# Altium schematic symbol library SensingBox.SCHLIB: 45 symbols
Pins are listed as number, name and electrical type; pins without a type are passive.

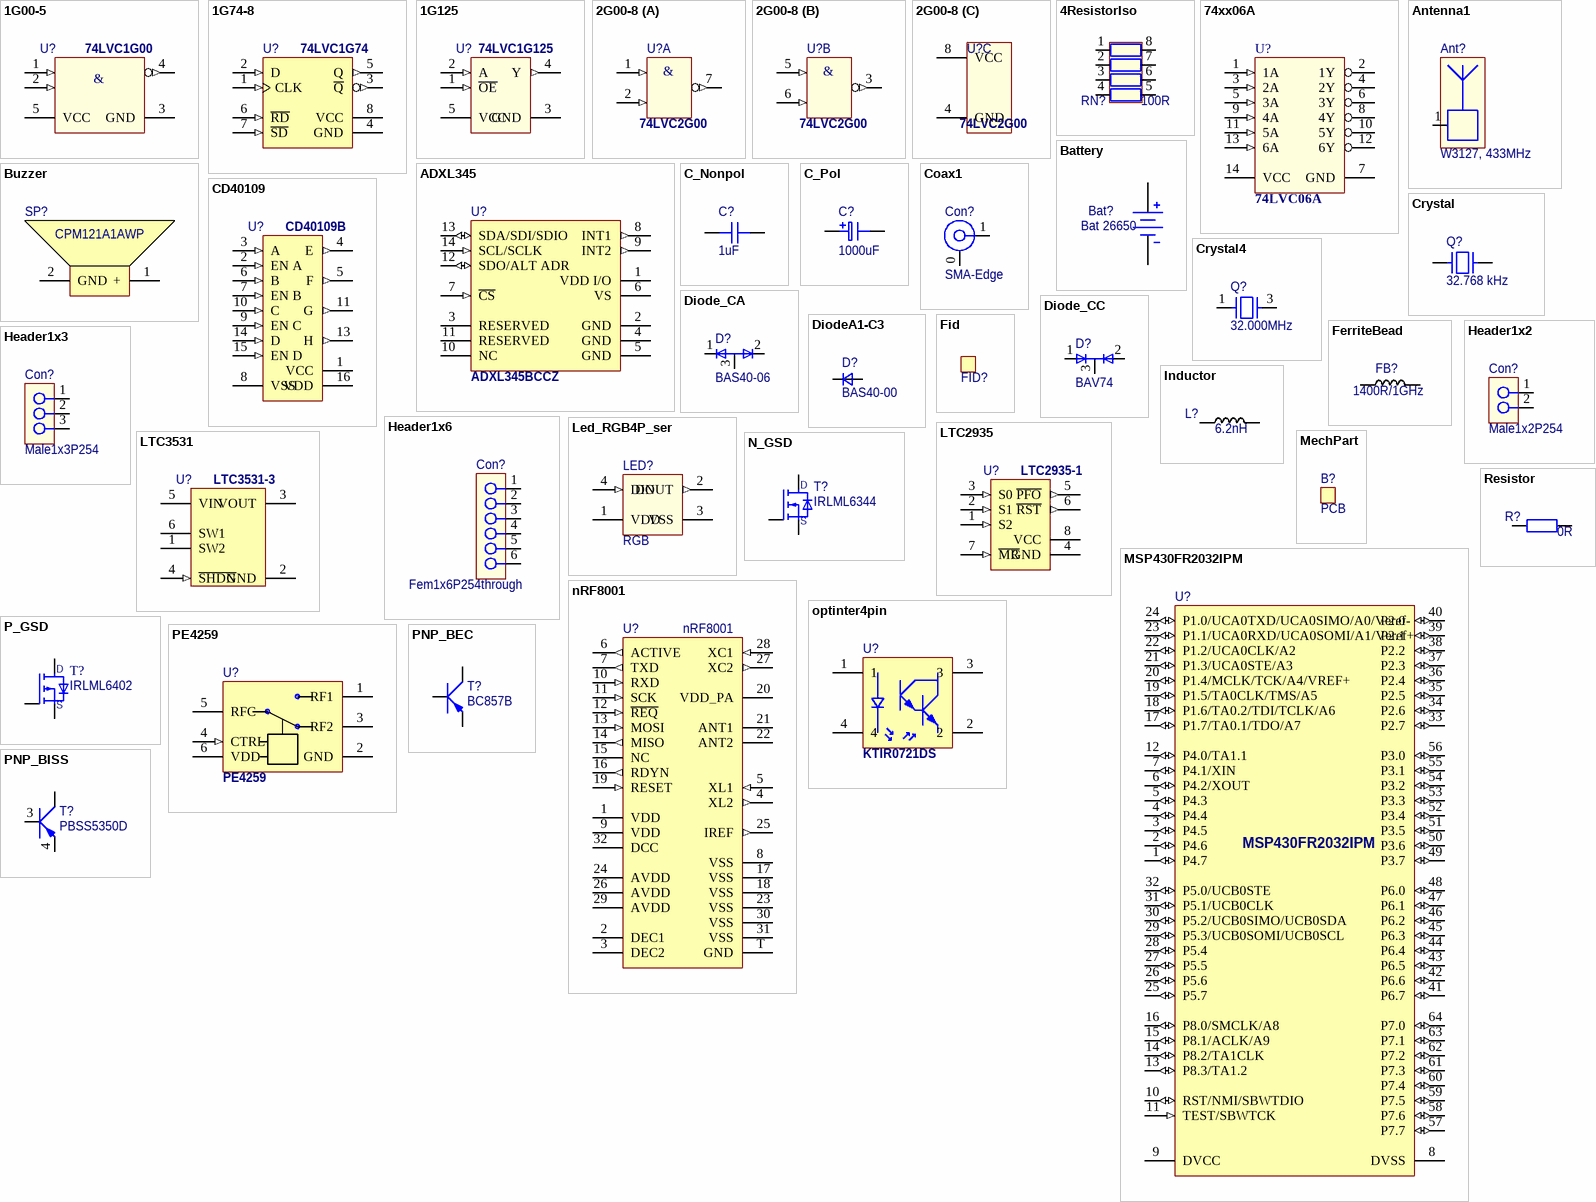
[diagram p0: symbols 1G00-5 to Resistor]

## 1G00-5
designator U?, comment 74LVC1G00
CMOS Single 2-input NAND TSSOP5; Part Number: 1-00000265; ID: 1; Value: 74LVC1G00; Family: LVC; Function: Single 2-input NAND; Lifecycle: active; HelpURL: \\Wsnserver1\wsn\Documents\Engineering\Partnumbers\AVL\1-00000265; Datasheet: NXP#\\Wsnserver1\wsn\Documents\Engineering\Partnumbers\AVL\1-00000265#; Component Type: Standard
footprint sot353
pins: 1 (in), 2 (in), 3 GND (power), 4 (out), 5 VCC (power)
text: &

## 1G74-8
designator U?, comment 74LVC1G74
Single D-Flip-Flop with Set and Reset VSSOP8; Part Number: 1-00000271; ID: 2; Value: 74LVC1G74; Family: LVC; Function: Single D-Flip-Flop; Lifecycle: active; HelpURL: \\Wsnserver1\wsn\Documents\Engineering\Partnumbers\AVL\1-00000271; Datasheet: NXP#\\Wsnserver1\wsn\Documents\Engineering\Partnumbers\AVL\1-00000271#; Component Type: Standard
footprint SO8P05_200x230x10
pins: 1 CLK (in), 2 D (in), 3 ~{Q} (out), 4 GND (power), 5 Q (out), 6 ~{RD} (in), 7 ~{SD} (in), 8 VCC (power)

## 1G125
designator U?, comment 74LVC1G125
CMOS Single Bus Driver 3-state TSSOP; Part Number: 1-00000314; ID: 6; Function: Single Bus Driver, 3-state; Value: 74LVC1G125; Family: LVC; Lifecycle: active; HelpURL: \\Wsnserver1\wsn\Documents\Engineering\Partnumbers\AVL\1-00000314; Datasheet: NXP#\\Wsnserver1\wsn\Documents\Engineering\Partnumbers\AVL\1-00000314#; Component Type: Standard
footprint sot353
pins: 1 ~{OE} (in), 2 A (in), 3 GND (power), 4 Y (out), 5 VCC (power)

## 2G00-8
designator U?, comment 74LVC2G00
CMOS Dual 2-input NAND VSSOP8; Part Number: 1-00000293; ID: 3; Value: 74LVC2G00; Family: LVC; Function: Dual 2-input NAND; Lifecycle: active; HelpURL: \\Wsnserver1\wsn\Documents\Engineering\Partnumbers\AVL\1-00000293; Datasheet: NXP#\\Wsnserver1\wsn\Documents\Engineering\Partnumbers\AVL\1-00000293#; Component Type: Standard
footprint SO8P05_200x230x10
part A pins: 1 (in), 2 (in), 7 (out)
part B pins: 3 (out), 5 (in), 6 (in)
part C pins: 4 GND (power), 8 VCC (power)
part A text: &
part B text: &

## 4ResistorIso
designator RN?, comment 100R
Res Net 4Iso 100R 5% smd0804; Part Number: 1-00000242; ID: 62; Count: 4; Power: 62.5mW; Value: 100R; Tolerance: 5%; Lifecycle: active; HelpURL: \\Wsnserver1\wsn\Documents\Engineering\Partnumbers\AVL\BournsResistorArrays\Bourns_CAT10.pdf; Datasheet: Bourns#\\Wsnserver1\wsn\Documents\Engineering\Partnumbers\AVL\BournsResistorArrays\Bourns_CAT10.pdf#; Component Type: Standard
footprint smd8_4x1
pins: 1, 2, 3, 4, 5, 6, 7, 8

## 74xx06A
designator U?, comment 74LVC06A
CMOS Hex Inverter with OD Output TSSOP; Part Number: 1-00000328; ID: 7; Function: Hex Inverter OD; Value: 74LVC06A; Family: LVC; Lifecycle: active; Component Type: Standard; HelpURL: \\Wsnserver1\wsn\Documents\Engineering\Partnumbers\AVL\1-00000328; Datasheet: ON Semi#\\Wsnserver1\wsn\Documents\Engineering\Partnumbers\AVL\1-00000328#
footprint SO14P065_440x500x12
pins: 1 1A (in), 2 1Y (oc), 3 2A (in), 4 2Y (oc), 5 3A (in), 6 3Y (oc), 7 GND (power), 8 4Y (oc), 9 4A (in), 10 5Y (oc), 11 5A (in), 12 6Y (oc), 13 6A (in), 14 VCC (power)

## ADXL345
designator U?, comment ADXL345BCCZ
Sensor 3-axis Accelerometer LGA14; Part Number: 1-00000232; ID: 145; Application: Accelerometer; Value: ADXL345BCCZ; Lifecycle: active; HelpURL: \\Wsnserver1\wsn\Documents\Engineering\Partnumbers\AVL\1-00000232\1-00000232_ADXL345.pdf; Datasheet: AnalogDevices#\\Wsnserver1\wsn\Documents\Engineering\Partnumbers\AVL\1-00000232\1-00000232_ADXL345.pdf#; Component Type: Standard
footprint LGA14P08_300x500x1
pins: 1 VDD I/O (power), 2 GND (power), 3 RESERVED, 4 GND (power), 5 GND (power), 6 VS (power), 7 ~{CS} (in), 8 INT1 (out), 9 INT2 (out), 10 NC, 11 RESERVED, 12 SDO/ALT ADR (io), 13 SDA/SDI/SDIO (io), 14 SCL/SCLK (in)

## Antenna1
designator Ant?, comment W3127, 433MHz
Antenna Helical W3127 433MHz D7x35.35; Part Number: 1-00000313; ID: 3; Type: Antenna; Value: W3127, 433MHz; Lifecycle: active; HelpURL: \\Wsnserver1\wsn\Documents\Engineering\Partnumbers\AVL\1-00000313\1-00000313_W3127.pdf; Datasheet: Pulse#\\Wsnserver1\wsn\Documents\Engineering\Partnumbers\AVL\1-00000313\1-00000313_W3127.pdf#; Component Type: Standard
footprint Antenna_Helical3535x73
pins: 1

## Battery
designator Bat?, comment Bat 26650
Bat 3.6V  Size 26650; Part Number: 26650; ID: 5; Type: Battery; Value: Bat 26650; Lifecycle: active; Component Type: Standard
footprint Bat26650
pins: 1 (power), 2 (power)

## Buzzer
designator SP?, comment CPM121A1AWP
Buzzer 12V/80dB 2pin D138x75TH; Part Number: 1-00000260; ID: 1; Type: Buzzer; Value: CPM121A1AWP; Lifecycle: active; HelpURL: \\Wsnserver1\wsn\Documents\Engineering\Partnumbers\AVL\1-00000260; Datasheet: NihonCeratec#\\Wsnserver1\wsn\Documents\Engineering\Partnumbers\AVL\1-00000260#; Component Type: Standard
footprint D138x75TH
pins: 1 + (power), 2 GND (power)

## C_Nonpol
designator C?, comment 1uF
Cap X7R 1uF 16V 10% smd0603; Part Number: 1-00000219; ID: 350; Type: Ceramic; Value: 1uF; Material: X7R; Tolerance: 10%; Voltage: 16V; Lifecycle: active; HelpURL: \\Wsnserver1\wsn\Documents\Engineering\Partnumbers\AVL\KemetCapaciter\KEM_CC101_COMM_SMD.pdf; Datasheet: Kemet#\\Wsnserver1\wsn\Documents\Engineering\Partnumbers\AVL\KemetCapaciter\KEM_CC101_COMM_SMD.pdf; Component Type: Standard
footprint smd0603
pins: 1, 2

## C_Pol
designator C?, comment 1000uF
Cap Alu 1000uF 6.3V 20% size F; Part Number: 1-00000297; ID: 355; Value: 1000uF; Type: Alu; Material: Alu; Tolerance: 20%; Voltage: 6.3V; Lifecycle: active; HelpURL: \\Wsnserver1\wsn\Documents\Engineering\Partnumbers\AVL\1-00000297; Datasheet: Panasonic#\\Wsnserver1\wsn\Documents\Engineering\Partnumbers\AVL\1-00000297#; Component Type: Standard
footprint elko_d8x105
pins: 1, 2

## CD40109
designator U?, comment CD40109B
CMOS Quad Low-to-High Level Shifter TSSOP; Part Number: 1-00000319; ID: 4; Function: Quad Level Shifter; Value: CD40109B; Family: HC; Lifecycle: active; HelpURL: \\Wsnserver1\wsn\Documents\Engineering\Partnumbers\AVL\1-00000319\1-00000319_cd40109b.pdf; Datasheet: TI#\\Wsnserver1\wsn\Documents\Engineering\Partnumbers\AVL\1-00000319\1-00000319_cd40109b.pdf#; Component Type: Standard
footprint SO16P065_440x500x12
pins: 1 VCC (power), 2 EN A (in), 3 A (in), 4 E (out), 5 F (out), 6 B (in), 7 EN B (in), 8 VSS (power), 9 EN C (in), 10 C (in), 11 G (out), 13 H (out), 14 D (in), 15 EN D (in), 16 VDD (power)

## Coax1
designator Con?, comment SMA-Edge
SMA Jack Edge Mount L9.53 5Pad; Part Number: 1-00000312; ID: 23; Angle: 0; Impedance: 50R; Application: RF; Value: SMA-Edge; Pins: 1; Type: Coax; Lifecycle: active; HelpURL: \\Wsnserver1\wsn\Documents\Engineering\Partnumbers\AVL\1-00000312\1-00000312_732511150_sd.pdf; Datasheet: Molex#\\Wsnserver1\wsn\Documents\Engineering\Partnumbers\AVL\1-00000312\1-00000312_732511150_sd.pdf#; Component Type: Standard
footprint sma_edge5p953x953h434
pins: 0 (power), 1

## Crystal
designator Q?, comment 32.768 kHz
Crys 32.768kHz +/-20ppm smd20x12; Part Number: 1-00000301; ID: 72; CL: 12.5 pF; Value: 32.768 kHz; Tolerance: +/-20ppm; Lifecycle: active; HelpURL: \\Wsnserver1\wsn\Documents\Engineering\Partnumbers\AVL\1-00000301\1-00000301_NX2012SA-STD-MUB-1_e.pdf; Datasheet: NDK#\\Wsnserver1\wsn\Documents\Engineering\Partnumbers\AVL\1-00000301\1-00000301_NX2012SA-STD-MUB-1_e.pdf#; Component Type: Standard
footprint Crystal_smd20x12
pins: 1, 2

## Crystal4
designator Q?, comment 32.000MHz
Crys 32.000MHz +/-15ppm smd3225; Part Number: 1-00000302; ID: 73; CL: 8pF; Value: 32.000MHz; Tolerance: +/-15ppm; Lifecycle: active; HelpURL: \\Wsnserver1\wsn\Documents\Engineering\Partnumbers\AVL\1-00000302\1-00000302_NX3225SA.pdf; Datasheet: NDK#\\Wsnserver1\wsn\Documents\Engineering\Partnumbers\AVL\1-00000302\1-00000302_NX3225SA.pdf#; Component Type: Standard
footprint Crystal_smd3225
pins: 1, 2 (power) hidden to GND, 3, 4 (power) hidden to GND

## Diode_CA
designator D?, comment BAS40-06
DIODE Schottky Dual CA 40V 200mA SOT23; Part Number: 1-00000270; ID: 5; Count: 2; Common: Anode; Application: General; Value: BAS40-06; Voltage: 40V; Current: 200mA; Lifecycle: active; HelpURL: \\Wsnserver1\wsn\Documents\Engineering\Partnumbers\AVL\1-00000270; Datasheet: Vishay#\\Wsnserver1\wsn\Documents\Engineering\Partnumbers\AVL\1-00000270#; Component Type: Standard
footprint sot23
pins: 1, 2, 3

## Diode_CC
designator D?, comment BAV74
DIODE High Speed Dual CC 60V 215mA SOT23; Part Number: 1-00000292; ID: 6; Count: 2; Common: Cathode; Application: High Speed; Value: BAV74; Voltage: 60V; Current: 215mA; Lifecycle: active; HelpURL: \\Wsnserver1\wsn\Documents\Engineering\Partnumbers\AVL\1-00000292; Datasheet: NXP#\\Wsnserver1\wsn\Documents\Engineering\Partnumbers\AVL\1-00000292#; Component Type: Standard
footprint sot23
pins: 1, 2, 3

## DiodeA1-C3
designator D?, comment BAS40-00
DIODE Schottky 40V 200mA SOT23; Part Number: 1-00000267; ID: 2; Count: 1; Application: General; Value: BAS40-00; Voltage: 40V; Current: 200mA; Lifecycle: active; HelpURL: \\Wsnserver1\wsn\Documents\Engineering\Partnumbers\AVL\1-00000267; Datasheet: Vishay#\\Wsnserver1\wsn\Documents\Engineering\Partnumbers\AVL\1-00000267#; Component Type: Standard
footprint sot23
pins: 1, 3

## FerriteBead
designator FB?, comment 1400R/1GHz
Ferrite Bead 1400R/1GHz 250mA smd0402; Part Number: 1-00000240; ID: 27; DCR: 1.1R; Application: Ferrite Bead; Value: 1400R/1GHz; Current: 250mA; Lifecycle: active; HelpURL: \\Wsnserver1\wsn\Documents\Engineering\Partnumbers\AVL\1-00000240\1-00000240_BLM15HG102SN1.pdf; Datasheet: Murata#\\Wsnserver1\wsn\Documents\Engineering\Partnumbers\AVL\1-00000240\1-00000240_BLM15HG102SN1.pdf#; Component Type: Standard
footprint smd0402
pins: 1, 2

## Fid
designator FID?  (value not drawn)  (no BOM)
Fiducial; ID: 30; Part Number: Fiducial; Type: Fiducial; Value: Fiducial; Lifecycle: active; Component Type: Standard (No BOM)
footprint Fiducial

## Header1x2
designator Con?, comment Male1x2P254
Header 0°1x02P RM2.54 L14.22 H10.67 LOCK MALE; Part Number: 1-00000308; ID: 20; Angle: 0; Current: 4A; Pitch: 2.54; Voltage: 250V; Value: Male1x2P254; Lifecycle: active; HelpURL: \\Wsnserver1\wsn\Documents\Engineering\Partnumbers\AVL\1-00000308\; Datasheet: Molex#\\Wsnserver1\wsn\Documents\Engineering\Partnumbers\AVL\1-00000308\#; Component Type: Standard; Application: Header; Pins: 2; Type: Single Row
footprint header1x2_254h1067lock
pins: 1, 2

## Header1x3
designator Con?, comment Male1x3P254
Header 0°1x03P RM2.54 L12.15 H9.25 MALE; Part Number: 1-00000288; ID: 3; Pitch: 2.54; Angle: 0; Voltage: 250V; Current: 3A; Application: Header; Value: Male1x3P254; Pins: 3; Type: Single Row; Lifecycle: active; HelpURL: \\Wsnserver1\wsn\Documents\Engineering\Partnumbers\AVL\HeaderMolex90120; Datasheet: Molex#..\..\..\Partnumbers\AVL\HeaderMolex90120#; Component Type: Standard
footprint header1x3_254
pins: 1, 2, 3

## Header1x6
designator Con?, comment Fem1x6P254through
Header 0°1x06P RM2.54 H8.5 THROUGH FEM; Part Number: 1-00000309; ID: 21; Pitch: 2.54; Angle: 0; Voltage: 250V; Current: 3A; Application: Header; Value: Fem1x6P254through; Pins: 6; Type: Single Row; Lifecycle: active; Component Type: Standard; HelpURL: \\Wsnserver1\wsn\Documents\Engineering\Partnumbers\AVL\HeaderFischerBL11-BL12; Datasheet: Fischer#\\Wsnserver1\wsn\Documents\Engineering\Partnumbers\AVL\HeaderFischerBL11-BL12#
footprint header_fem1x6_254through
pins: 1, 2, 3, 4, 5, 6

## Inductor
designator L?, comment 6.2nH
Ind RF 6.2nH 760mA smd0402; Part Number: 1-00000236; ID: 157; Q: 52; SRF: 4.8GHz; DCR: 0.083R; Application: RF; Value: 6.2nH; Current: 760mA; Lifecycle: active; HelpURL: \\Wsnserver1\wsn\Documents\Engineering\Partnumbers\AVL\1-00000236; Datasheet: Coilcraft#\\Wsnserver1\wsn\Documents\Engineering\Partnumbers\AVL\1-00000236#; Component Type: Standard
footprint smd0402cs
pins: 1, 2

## Led_RGB4P_ser
designator LED?, comment RGB
LED RGB 0° Serial smd50x50; Part Number: 1-00000304; ID: 47; Count: 3; Lambda: 622/523/466nm; Voltage: 3.5V-5.3V; IV: 405/690/190mcd; Value: RGB; Angle: 0°; Color1: RGB; Lifecycle: active; HelpURL: \\Wsnserver1\wsn\Documents\Engineering\Partnumbers\AVL\1-00000304\1-00000304_WS2812B.pdf; Datasheet: Worldsemi#\\Wsnserver1\wsn\Documents\Engineering\Partnumbers\AVL\1-00000304\1-00000304_WS2812B.pdf#; Component Type: Standard
footprint led4RGB_ser50x50
pins: 1 VDD (power), 2 DOUT (out), 3 VSS (power), 4 DIN (in)

## LTC2935
designator U?, comment LTC2935-1
Ultra-Low Power Supervisor LTC2935-1 TSOT23; Part Number: 1-00000307; ID: 151; Application: Supervisor; Value: LTC2935-1; Lifecycle: active; HelpURL: \\Wsnserver1\wsn\Documents\Engineering\Partnumbers\AVL\1-00000307\1-00000307_LTC2935f.pdf; Datasheet: LT#\\Wsnserver1\wsn\Documents\Engineering\Partnumbers\AVL\1-00000307\1-00000307_LTC2935f.pdf#; Component Type: Standard
footprint SOT23_8h11
pins: 1 S2 (in), 2 S1 (in), 3 S0 (in), 4 GND (power), 5 ~{PFO} (out), 6 ~{RST} (out), 7 ~{MR} (in), 8 VCC (power)

## LTC3531
designator U?, comment LTC3531-3
DC/DC Boost 3V 125mA TSOT-23; Part Number: 1-00000310; ID: 34; Max Input Voltage: 5.5V; Quiescent Current: 16uA; Enable: True; Power Good: False; Value: LTC3531-3; Family: Buck-Boost; Current: 125mA; Output Voltage: 3V; Lifecycle: active; HelpURL: \\Wsnserver1\wsn\Documents\Engineering\Partnumbers\AVL\1-00000310\1-00000310_LTC3531fb.pdf; Datasheet: LT#\\Wsnserver1\wsn\Documents\Engineering\Partnumbers\AVL\1-00000310\1-00000310_LTC3531fb.pdf#; Component Type: Standard
footprint sot23_6h11
pins: 1 SW2, 2 GND (power), 3 VOUT (power), 4 ~{SHDN} (in), 5 VIN (power), 6 SW1

## MechPart
designator B?, comment PCB  (mechanical)
PCB  SensingBox Rev 02; Part Number: 3-00000011; ID: 31; Type: PCB; Value: PCB; Component Type: Mechanical

## MSP430FR2032IPM
designator U?
Mixed-Signal Microcontrollers FRAM LQFP64; Part Number: 1-00000327; ID: 3; Organisation: 15.5k; Voltage: 1.8-3.6V; Type: FRAM; Value: MSP430FR2032IPM; Lifecycle: active; HelpURL: \\Wsnserver1\wsn\Documents\Engineering\Partnumbers\AVL\1-00000327\1-00000327_msp430fr2032.pdf; Datasheet: TI#\\Wsnserver1\wsn\Documents\Engineering\Partnumbers\AVL\1-00000327\1-00000327_msp430fr2032.pdf#; Component Type: Standard
footprint QFP64P05_100x100x16
pins: 1 P4.7 (io), 2 P4.6 (io), 3 P4.5 (io), 4 P4.4 (io), 5 P4.3 (io), 6 P4.2/XOUT (io), 7 P4.1/XIN (io), 8 DVSS (power), 9 DVCC (power), 10 RST/NMI/SBWTDIO (io), 11 TEST/SBWTCK (in), 12 P4.0/TA1.1 (io), 13 P8.3/TA1.2 (io), 14 P8.2/TA1CLK (io), 15 P8.1/ACLK/A9 (io), 16 P8.0/SMCLK/A8 (io), 17 P1.7/TA0.1/TDO/A7 (io), 18 P1.6/TA0.2/TDI/TCLK/A6 (io), 19 P1.5/TA0CLK/TMS/A5 (io), 20 P1.4/MCLK/TCK/A4/VREF+ (io), 21 P1.3/UCA0STE/A3 (io), 22 P1.2/UCA0CLK/A2 (io), 23 P1.1/UCA0RXD/UCA0SOMI/A1/Veref+ (io), 24 P1.0/UCA0TXD/UCA0SIMO/A0/Veref- (io), 25 P5.7 (io), 26 P5.6 (io), 27 P5.5 (io), 28 P5.4 (io), 29 P5.3/UCB0SOMI/UCB0SCL (io), 30 P5.2/UCB0SIMO/UCB0SDA (io), 31 P5.1/UCB0CLK (io), 32 P5.0/UCB0STE (io), 33 P2.7 (io), 34 P2.6 (io), 35 P2.5 (io), 36 P2.4 (io), 37 P2.3 (io), 38 P2.2 (io), 39 P2.1 (io), 40 P2.0 (io), 41 P6.7 (io), 42 P6.6 (io), 43 P6.5 (io), 44 P6.4 (io), 45 P6.3 (io), 46 P6.2 (io), 47 P6.1 (io), 48 P6.0 (io), 49 P3.7 (io), 50 P3.6 (io), 51 P3.5 (io), 52 P3.4 (io), 53 P3.3 (io), 54 P3.2 (io), 55 P3.1 (io), 56 P3.0 (io), 57 P7.7 (io), 58 P7.6 (io), 59 P7.5 (io), 60 P7.4 (io), 61 P7.3 (io), 62 P7.2 (io), 63 P7.1 (io), 64 P7.0 (io)

## N_GSD
designator T?, comment IRLML6344
TRANSISTOR N-MOSFET 1.3W IRLML6344 sot23; Part Number: 1-00000317; ID: 7; Polarity: N_Channel; Count: 1; V GS: +/-12V; V DS: 30V; I DS: 5A; R DSON: 37mR; Application: General; Value: IRLML6344; Lifecycle: active; HelpURL: \\Wsnserver1\wsn\Documents\Engineering\Partnumbers\AVL\1-00000317\1-00000317_IRLML6344.pdf; Datasheet: IR#\\Wsnserver1\wsn\Documents\Engineering\Partnumbers\AVL\1-00000317\1-00000317_IRLML6344.pdf#; Component Type: Standard
footprint sot23
pins: 1, 2, 3
text: D; S

## nRF8001
designator U?
Bluetooth LE Device Proc QFN32; Part Number: 1-00000252; ID: 149; Application: BT-LE; Value: nRF8001; Lifecycle: active; HelpURL: \\Wsnserver1\wsn\Documents\Engineering\Partnumbers\AVL\1-00000252\1-00000252_nRF8001_PS_v1.3.pdf; Datasheet: Nordic#\\Wsnserver1\wsn\Documents\Engineering\Partnumbers\AVL\1-00000252\1-00000252_nRF8001_PS_v1.3.pdf#; Component Type: Standard
footprint QFN32P05_500x500x09T
pins: 1 VDD (power), 2 DEC1 (power), 3 DEC2 (power), 4 XL2 (out), 5 XL1 (in), 6 ACTIVE (out), 7 TXD (out), 8 VSS (power), 9 VDD (power), 10 RXD (in), 11 SCK (in), 12 ~{REQ} (in), 13 MOSI (in), 14 MISO (out), 15 NC, 16 RDYN (out), 17 VSS (power), 18 VSS (power), 19 RESET (in), 20 VDD_PA (power), 21 ANT1, 22 ANT2, 23 VSS (power), 24 AVDD (power), 25 IREF (out), 26 AVDD (power), 27 XC2 (out), 28 XC1 (in), 29 AVDD (power), 30 VSS (power), 31 VSS (power), 32 DCC (power), T GND (power)

## optinter4pin
designator U?, comment KTIR0721DS
Photo-Interrupter 6V smd3.4x2.7; Part Number: 1-00000261; ID: 1; Value: KTIR0721DS; Voltage: 6V; Lifecycle: active; HelpURL: \\Wsnserver1\wsn\Documents\Engineering\Partnumbers\AVL\1-00000261\1-00000261_KTIR0721DS.pdf; Datasheet: Kingbright#\\Wsnserver1\wsn\Documents\Engineering\Partnumbers\AVL\1-00000261\1-00000261_KTIR0721DS.pdf#; Component Type: Standard
footprint smd4p34x27
pins: 1 (power), 2 (power), 3 (power), 4 (power)

## P_GSD
designator T?, comment IRLML6402
TRANSISTOR P-MOSFET 1.3W IRLML6402 sot23; Part Number: 1-00000306; ID: 6; Polarity: P-Channel; Count: 1; V GS: +/-12V; V DS: -20V; I DS: -3.7A; R DSON: 65mR; Application: General; Value: IRLML6402; Lifecycle: active; HelpURL: \\Wsnserver1\wsn\Documents\Engineering\Partnumbers\AVL\1-00000306\1-00000306_irlml6402.pdf; Datasheet: IR#\\Wsnserver1\wsn\Documents\Engineering\Partnumbers\AVL\1-00000306\1-00000306_irlml6402.pdf#; Component Type: Standard
footprint sot23
pins: 1, 2, 3
text: D; S

## PE4259
designator U?
Switch RF 3V 3GHz SC70; Part Number: 1-00000233; ID: 17; Insertion Loss: 0.35dB; Isolation: 30dB; Value: PE4259; Function: RF; Voltage: 3V; Frequency: 3GHz; Lifecycle: active; HelpURL: \\Wsnserver1\wsn\Documents\Engineering\Partnumbers\AVL\1-00000233\1-00000233_pe4259ds.pdf; Datasheet: Peregrine#\\Wsnserver1\wsn\Documents\Engineering\Partnumbers\AVL\1-00000233\1-00000233_pe4259ds.pdf#; Component Type: Standard
footprint sot363
pins: 1 RF1, 2 GND, 3 RF2, 4 CTRL (in), 5 RFC, 6 VDD (power)

## PNP_BEC
designator T?, comment BC857B
Transistor PNP BC867B 45V 100mA sot416; Part Number: 1-00000263; ID: 2; Count: 1; Application: General; Value: BC857B; Polarity: PNP; Lifecycle: active; HelpURL: \\Wsnserver1\wsn\Documents\Engineering\Partnumbers\AVL\1-00000263\1-00000263_BC856T_857T.pdf; Datasheet: NXP#\\Wsnserver1\wsn\Documents\Engineering\Partnumbers\AVL\1-00000263\1-00000263_BC856T_857T.pdf#; Component Type: Standard
footprint sot416
pins: 1, 2, 3

## PNP_BISS
designator T?, comment PBSS5350D
Transistor PNP PBSS5350D 50V 3A TSOP6; Part Number: 1-00000286; ID: 5; Count: 1; Application: BISS; Value: PBSS5350D; Polarity: PNP; Lifecycle: active; HelpURL: \\Wsnserver1\wsn\Documents\Engineering\Partnumbers\AVL\1-00000286\1-00000286_PBSS5350D.pdf; Datasheet: NXP#\\Wsnserver1\wsn\Documents\Engineering\Partnumbers\AVL\1-00000286\1-00000286_PBSS5350D.pdf#; Component Type: Standard
footprint sot457
pins: 1 1,2,5,6, 2, 3, 4, 5, 6

## Resistor
designator R?, comment 0R
Res 0R 5% 1/16W smd0402; Part Number: 1-00000001; ID: 418; Value: 0R; Tolerance: 5%; Power: 1/16W; Lifecycle: active; HelpURL: \\Wsnserver1\wsn\Documents\Engineering\Partnumbers\AVL\BournsResistors\BournsCR0402.pdf; Datasheet: Bourns#\\Wsnserver1\wsn\Documents\Engineering\Partnumbers\AVL\BournsResistors\BournsCR0402.pdf#; Component Type: Standard
footprint smd0402r
pins: 1, 2

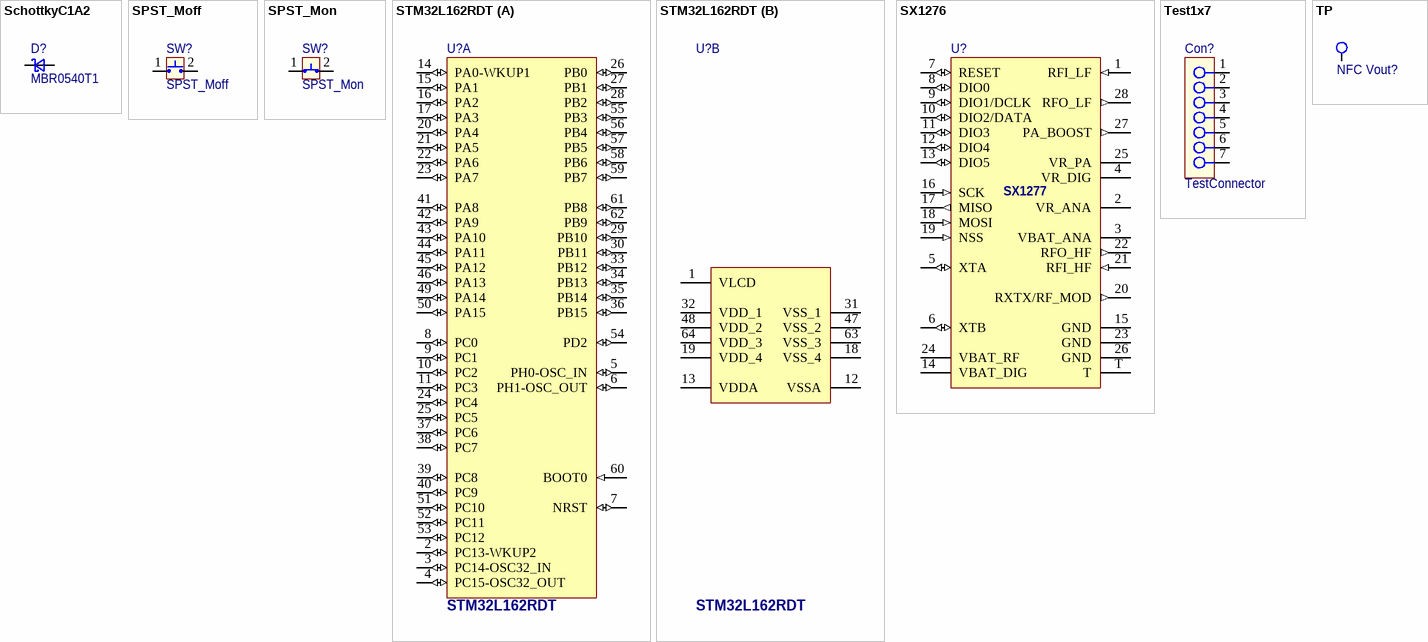
[diagram p1: symbols SchottkyC1A2 to TP]

## SchottkyC1A2
designator D?, comment MBR0540T1
DIODE Schottky 40V 500mA SOD123; Part Number: 1-00000254; ID: 1; Application: Protection; Value: MBR0540T1; Count: 1; Voltage: 40V; Current: 500mA; Lifecycle: active; HelpURL: \\Wsnserver1\wsn\Documents\Engineering\Partnumbers\AVL\1-00000254; Datasheet: ON Semi#\\Wsnserver1\wsn\Documents\Engineering\Partnumbers\AVL\1-00000254#; Component Type: Standard
footprint sod123
pins: 1 C, 2 A

## SPST_Moff
designator SW?
Push Button 1pol 2pin 12V 50mA smd2; Part Number: 1-00000239; ID: 7; Angle: 0; Switch: Single Push Botton; Resistance: 100mR; Value: SPST_Moff; Voltage: 12V; Current: 50mA; Lifecycle: active; Component Type: Standard; HelpURL: \\Wsnserver1\wsn\Documents\Engineering\Partnumbers\AVL\1-00000239\1-00000239_TL3302.pdf; Datasheet: E-Switch#\\Wsnserver1\wsn\Documents\Engineering\Partnumbers\AVL\1-00000239\1-00000239_TL3302.pdf#
footprint sw_smd2_60x35x43
pins: 1, 2

## SPST_Mon
designator SW?
Battery Switch 1pol 2pin smd23x6; Part Number: batswitch; ID: 9; Value: SPST_Mon; Switch: Battery Switch; Lifecycle: active; Component Type: Standard
footprint sw_smd23x6
pins: 1, 2

## STM32L162RDT
designator U?
ARM Cortex-M3 MCU AES LQFP64; Part Number: 1-00000230; D/A Converter: 2x12-bit (2 Channel); Data E2PROM nom (B): 12288; Display controller: LCD 4x32/8x28; FLASH Size (Prog) (kB): 384; I/Os (High Current): 51; Integrated op-amps: 3; Internal RAM Size (kB): 48; Operating Frequency(F) (Processor speed) (MHz): 32; Supply Voltage(Vcc) min (V): 1.65; ID: 145; Core: ARM Cortex-M3; Application: MCU; Value: STM32L162RDT; Lifecycle: active; HelpURL: \\Wsnserver1\wsn\Documents\Engineering\Partnumbers\AVL\1-00000230\1-00000230_STM32L162RD.pdf; Datasheet: ST#\\Wsnserver1\wsn\Documents\Engineering\Partnumbers\AVL\1-00000230\1-00000230_STM32L162RD.pdf#; Component Type: Standard
footprint QFP64P05_100x100x16
part A pins: 2 PC13-WKUP2 (io) "PC13-WKUP2/PC13/WKUP2/RTC_TAMP1/RTC_TS/RTC_OUT", 3 PC14-OSC32_IN (io) "PC14-OSC32_IN/PC14/OSC32_IN", 4 PC15-OSC32_OUT (io) "PC15-OSC32_OUT/PC15/OSC32_OUT", 5 PH0-OSC_IN (io) "PH0-OSC_IN/PH0/OSC_IN", 6 PH1-OSC_OUT (io) "PH1-OSC_OUT/PH1/OSC_OUT", 7 NRST (io), 8 PC0 (io) "PC0/LCD_SEG18/ADC_IN10/COMP1_INP", 9 PC1 (io) "PC1/LCD_SEG19/ADC_IN11/COMP1_INP/OPAMP3_VINP", 10 PC2 (io) "PC2/LCD_SEG20/ADC_IN12/COMP1_INP/OPAMP3_VINM", 11 PC3 (io) "PC3/LCD_SEG21/ADC_IN13/COMP1_INP/OPAMP3_VOUT", 14 PA0-WKUP1 (io) "PA0-WKUP1/PA0/WKUP1/RTC_TAMP2/TIM2_CH1_ETR/TIM5_CH1/USART2_CTS/ADC_IN0/COMP1_INP", 15 PA1 (io) "PA1/TIM2_CH2/TIM5_CH2/USART2_RTS/LCD_SEG0/ADC_IN1/COMP1_INP/OPAMP1_VINP", 16 PA2 (io) "PA2/TIM2_CH3/TIM5_CH3/TIM9_CH1/USART2_TX/LCD_SEG1/ADC_IN2/COMP1_INP/OPAMP1_VINM", 17 PA3 (io) "PA3/TIM2_CH4/TIM5_CH4/TIM9_CH2/USART2_RX/LCD_SEG2/ADC_IN3/COMP1_INP/OPAMP1_VOUT", 20 PA4 (io) "PA4/SPI1_NSS/SPI3_NSS/I2S3_WS/USART2_CK/ADC_IN4/DAC_OUT1/COMP1_INP", 21 PA5 (io) "PA5/TIM2_CH1_ETR/SPI1_SCK/ADC_IN5/DAC_OUT2/COMP1_INP", 22 PA6 (io) "PA6/TIM3_CH1/TIM10_CH1/SPI1_MISO/LCD_SEG3/ADC_IN6/COMP1_INP/OPAMP2_VINP", 23 PA7 (io) "PA7/TIM3_CH2/TIM11_CH1/SPI1_MOSI/LCD_SEG4/ADC_IN7/COMP1_INP/OPAMP2_VINM", 24 PC4 (io) "PC4/LCD_SEG22/ADC_IN14/COMP1_INP", 25 PC5 (io) "PC5/LCD_SEG23/ADC_IN15/COMP1_INP", 26 PB0 (io) "PB0/TIM3_CH3/LCD_SEG5/ADC_IN8/COMP1_INP/VREF_OUT/OPAMP2_VOUT", 27 PB1 (io) "PB1/TIM3_CH4/LCD_SEG6/ADC_IN9/COMP1_INP/VREF_OUT", 28 PB2 (io) "PB2/BOOT1/COMP1_INP", 29 PB10 (io) "PB10/TIM2_CH3/I2C2_SCL/USART3_TX/LCD_SEG10", 30 PB11 (io) "PB11/TIM2_CH4/I2C2_SDA/USART3_RX/LCD_SEG11", 33 PB12 (io) "PB12/TIM10_CH1/I2C2_SMBA/SPI2_NSS/I2S2_WS/USART3_CK/LCD_SEG12/ADC_IN18/COMP1_INP", 34 PB13 (io) "PB13/TIM9_CH1/SPI2_SCK/I2S2_CK/USART3_CTS/LCD_SEG13/ADC_IN19/COMP1_INP", 35 PB14 (io) "PB14/TIM9_CH2/SPI2_MISO/USART3_RTS/LCD_SEG14/ADC_IN20/COMP1_INP", 36 PB15 (io) "PB15/TIM11_CH1/SPI2_MOSI/I2S2_SD/LCD_SEG15/ADC_IN21/COMP1_INP/RTC_REFIN", 37 PC6 (io) "PC6/TIM3_CH1/I2S2_MCK/LCD_SEG24/SDIO_D6", 38 PC7 (io) "PC7/TIM3_CH2/I2S3_MCK/LCD_SEG25/SDIO_D7", 39 PC8 (io) "PC8/TIM3_CH3/LCD_SEG26/SDIO_D0", 40 PC9 (io) "PC9/TIM3_CH4/LCD_SEG27/SDIO_D1", 41 PA8 (io) "PA8/USART1_CK/MCO/LCD_COM0", 42 PA9 (io) "PA9/USART1_TX/LCD_COM1", 43 PA10 (io) "PA10/USART1_RX/LCD_COM2", 44 PA11 (io) "PA11/USART1_CTS/USB_DM/SPI1_MISO", 45 PA12 (io) "PA12/USART1_RTS/USB_DP/SPI1_MOSI", 46 PA13 (io) "PA13/JTMS-SWDAT", 49 PA14 (io) "PA14/JTCK-SWCLK", 50 PA15 (io) "PA15/JTDI/TIM2_CH1_ETR/SPI1_NSS/SPI3_NSS/I2S3_WS/LCD_SEG17", 51 PC10 (io) "PC10/SPI3_SCK/I2S3_CK/USART3_TX/UART4_TX/LCD_SEG28/LCD_SEG40/LCD_COM4/SDIO_D2", 52 PC11 (io) "PC11/SPI3_MISO/USART3_RX/UART4_RX/LCD_SEG29/LCD_SEG41/LCD_COM5/SDIO_D3", 53 PC12 (io) "PC12/SPI3_MOSI/I2S3_SD/USART3_CK/UART5_TX/LCD_SEG30/LCD_SEG42/LCD_COM6/SDIO_CK", 54 PD2 (io) "PD2/TIM3_ETR/UART5_RX/LCD_SEG31/LCD_SEG43/LCD_COM7/SDIO_CMD", 55 PB3 (io) "PB3/JTDO/TIM2_CH2/SPI1_SCK/SPI3_SCK/I2S3_CK/LCD_SEG7/COMP2_INM", 56 PB4 (io) "PB4/NJTRST/TIM3_CH1/SPI1_MISO/SPI3_MISO/LCD_SEG8/COMP2_INP", 57 PB5 (io) "PB5/TIM3_CH2/I2C1_SMBA/SPI1_MOSI/SPI3_MOSI/I2S3_SD/LCD_SEG9/COMP2_INP", 58 PB6 (io) "PB6/TIM4_CH1/I2C1_SCL/USART1_TX/COMP2_INP", 59 PB7 (io) "PB7/TIM4_CH2/I2C1_SDA/USART1_RX/PVD_IN/FSMC_NADV/COMP2_INP", 60 BOOT0 (in), 61 PB8 (io) "PB8/TIM4_CH3/TIM10_CH1/I2C1_SCL/LCD_SEG16/SDIO_D4", 62 PB9 (io) "PB9/TIM4_CH4/TIM11_CH1/I2C1_SDA/LCD_COM3/SDIO_D5"
part B pins: 1 VLCD (power), 12 VSSA (power), 13 VDDA (power), 18 VSS_4 (power), 19 VDD_4 (power), 31 VSS_1 (power), 32 VDD_1 (power), 47 VSS_2 (power), 48 VDD_2 (power), 63 VSS_3 (power), 64 VDD_3 (power)

## SX1276
designator U?, comment SX1277
LoRa Transceiver SX1277 QFN28; Part Number: 1-00000231; ID: 146; Application: Transceiver; Value: SX1277; Lifecycle: active; HelpURL: \\Wsnserver1\wsn\Documents\Engineering\Partnumbers\AVL\1-00000231\1-00000231_sx1276.pdf; Datasheet: Semtech#\\Wsnserver1\wsn\Documents\Engineering\Partnumbers\AVL\1-00000231\1-00000231_sx1276.pdf#; Component Type: Standard
footprint QFN28P065_600x600x1T
pins: 1 RFI_LF (in), 2 VR_ANA (power), 3 VBAT_ANA (power), 4 VR_DIG, 5 XTA (io), 6 XTB (io), 7 RESET (io), 8 DIO0 (io), 9 DIO1/DCLK (io), 10 DIO2/DATA (io), 11 DIO3 (io), 12 DIO4 (io), 13 DIO5 (io), 14 VBAT_DIG (power), 15 GND (power), 16 SCK (in), 17 MISO (out), 18 MOSI (in), 19 NSS (in), 20 RXTX/RF_MOD (out), 21 RFI_HF (in), 22 RFO_HF (out), 23 GND (power), 24 VBAT_RF (power), 25 VR_PA (power), 26 GND (power), 27 PA_BOOST (out), 28 RFO_LF (out), T (power)

## Test1x7
designator Con?, comment TestConnector  (no BOM)
PCB Battery Test Connector 7Pad; Part Number: Bat_TestCon; ID: 24; Application: Test; Value: TestConnector; Pins: 7; Type: Test; Lifecycle: active; Component Type: Standard (No BOM)
footprint Battery7pin_Testconnector
pins: 1, 2, 3, 4, 5, 6, 7

## TP
designator NFC Vout?  (value not drawn)  (no BOM)
Testpoint 30mil; ID: 4; Part Number: TP; Application: Testpoint; Value: TP; Pins: 1; Type: Testpoint; Lifecycle: active; Component Type: Standard
footprint ICT45
pins: 1